# Altium footprint library PcbLib_FPGA_Controller.PcbLib: 20 footprints (part 1 of 2)
Each footprint in its own frame and in the unit in brackets; x right, y up, seen from the top. Pads: shape width x height; smd on the part's side, far side on the other; paste and mask are expansions set on the pad; w line width, h text height; cw(c..) or ccw(c..) is an arc to the next point about the centre after c.
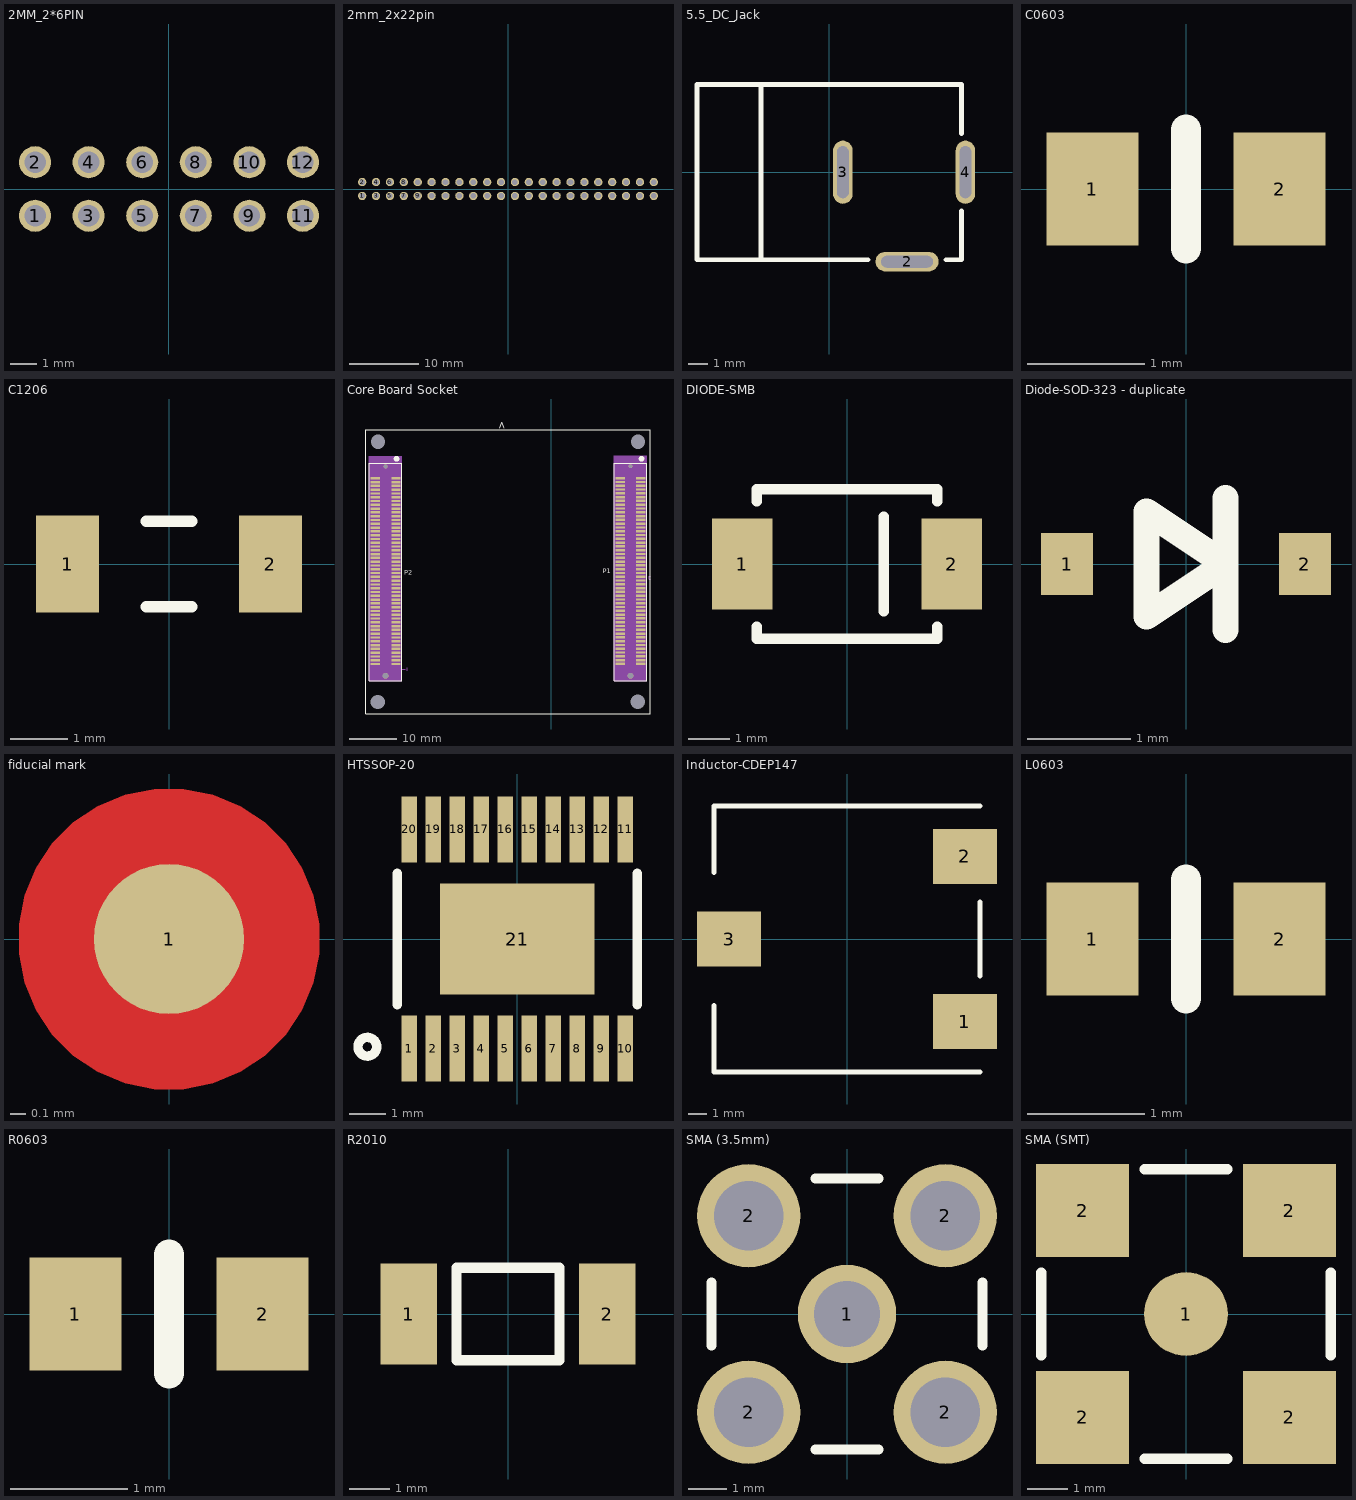
[diagram p0: the footprints below, top view; thin cyan lines are the x and y axes]

## 2MM_2*6PIN [mm]
pads (12):
  round 1.2 hole 0.8 mask+0.102: 1(-4.998,-1) 2(-4.998,1) 3(-2.998,-1) 4(-2.998,1) 5(-0.998,-1) 6(-0.998,1) 7(1.002,-1) 8(1.002,1) 9(3.002,-1) 10(3.002,1) 11(5.002,-1) 12(5.002,1)

## 2mm_2x22pin [mm]
pads (44):
  round 1.2 hole 0.8 mask+0.102: 1(-21,-1) 2(-21,1) 3(-19,-1) 4(-19,1) 5(-17,-1) 6(-17,1) 7(-15,-1) 8(-15,1) 9(-13,-1) 10(-13,1) 11(-11,-1) 12(-11,1) 13(-9,-1) 14(-9,1) 15(-7,-1) 16(-7,1) 17(-5,-1) 18(-5,1) 19(-3,-1) 20(-3,1) 21(-1,-1) 22(-1,1) 23(1,-1) 24(1,1) 25(3,-1) 26(3,1) 27(5,-1) 28(5,1) 29(7,-1) 30(7,1) 31(9,-1) 32(9,1) 33(11,-1) 34(11,1) 35(13,-1) 36(13,1) 37(15,-1) 38(15,1) 39(17,-1) 40(17,1) 41(19,-1) 42(19,1) 43(21,-1) 44(21,1)
3D body "2x22.step": height 5.51, standoff -2.59, extent -21.95,-2 21.95,2

## 5.5_DC_Jack [mm]
pads (3):
  oval 3.25x1 hole 0.6 slot 2.667 at 0 deg: 2(4,-4.6)
  oval 1x3.25 hole 0.6 slot 2.667 at 90 deg: 3(0.7,0) 4(7,0)
Top Overlay:
  lines w0.254: -3.5,-4.5 -3.5,4.5 ; 2,-4.5 -6.8,-4.5 -6.8,4.5 6.8,4.5 6.8,2 ; 6,-4.5 6.8,-4.5 6.8,-2
3D body "5.5_DC_Jack.step": height 11, standoff -3.5, extent -6.946,-4.746 7.454,4.754

## C0603 [mil]
pads (2):
  rect 31x38 smd: 1(-31.5,0) 2(31.5,0)
Top Overlay:
  lines w10: 0,-20 0,20
3D body "C0603.STEP": height 31.5, standoff 0, extent -31.49,-15.75 31.5,15.75

## C1206 [mm]
pads (2):
  rect 1.1x1.7 smd: 1(-1.778,0) 2(1.778,0)
Top Overlay:
  lines w0.2: -0.4,-0.75 0.4,-0.75 ; -0.4,0.75 0.4,0.75
3D body "C1206.step": height 1.86, standoff -0.09, extent -1.85,-0.9 1.85,0.9

## Core Board Socket [mm]
pads (208):
  rect 2x0.5 smd: 1(18.873,-53.802) 2(14.474,-53.802) 3(18.873,-54.602) 4(14.474,-54.602) 5(18.873,-55.402) 6(14.474,-55.402) 7(18.873,-56.202) 8(14.474,-56.202) 9(18.873,-57.002) 10(14.474,-57.002) 11(18.873,-57.802) 12(14.474,-57.802) 13(18.873,-58.602) 14(14.474,-58.602) 15(18.873,-59.402) 16(14.474,-59.402) 17(18.873,-60.202) 18(14.474,-60.202) 19(18.873,-61.002) 20(14.474,-61.002) 21(18.873,-61.802) 22(14.474,-61.802) 23(18.873,-62.602) 24(14.474,-62.602) 25(18.873,-63.402) 26(14.474,-63.402) 27(18.873,-64.202) 28(14.474,-64.202) 29(18.873,-65.002) 30(14.474,-65.002) 31(18.873,-65.802) 32(14.474,-65.802) 33(18.873,-66.602) 34(14.474,-66.602) 35(18.873,-67.402) 36(14.474,-67.402) 37(18.873,-68.202) 38(14.474,-68.202) 39(18.873,-69.002) 40(14.474,-69.002) 41(18.873,-69.802) 42(14.474,-69.802) 43(18.873,-70.602) 44(14.474,-70.602) 45(18.873,-71.402) 46(14.474,-71.402) 47(18.873,-72.202) 48(14.474,-72.202) 49(18.873,-73.002) 50(14.474,-73.002) 51(18.873,-73.802) 52(14.474,-73.802) 53(18.873,-74.602) 54(14.474,-74.602) 55(18.873,-75.402) 56(14.474,-75.402) 57(18.873,-76.202) 58(14.474,-76.202) 59(18.873,-77.002) 60(14.474,-77.002) 61(18.873,-77.802) 62(14.474,-77.802) 63(18.873,-78.602) 64(14.474,-78.602) 65(18.873,-79.402) 66(14.474,-79.402) 67(18.873,-80.202) 68(14.474,-80.202) 69(18.873,-81.002) 70(14.474,-81.002) 71(18.873,-81.802) 72(14.474,-81.802) 73(18.873,-82.602) 74(14.474,-82.602) 75(18.873,-83.402) 76(14.474,-83.402) 77(18.873,-84.202) 78(14.474,-84.202) 79(18.873,-85.002) 80(14.474,-85.002) 81(18.873,-85.802) 82(14.474,-85.802) 83(18.873,-86.602) 84(14.474,-86.602) 85(18.873,-87.402) 86(14.474,-87.402) 87(18.873,-88.202) 88(14.474,-88.202) 89(18.873,-89.002) 90(14.474,-89.002) 91(18.873,-89.802) 92(14.474,-89.802) 93(18.873,-90.602) 94(14.474,-90.602) 95(18.873,-91.402) 96(14.474,-91.402) 97(18.873,-92.202) 98(14.474,-92.202) 99(18.873,-93.002) 100(14.474,-93.002) 101(-32.816,-53.827) 102(-37.215,-53.827) 103(-32.816,-54.627) 104(-37.215,-54.627) 105(-32.816,-55.427) 106(-37.215,-55.427) 107(-32.816,-56.227) 108(-37.215,-56.227) 109(-32.816,-57.027) 110(-37.215,-57.027) 111(-32.816,-57.827) 112(-37.215,-57.827) 113(-32.816,-58.627) 114(-37.215,-58.627) 115(-32.816,-59.427) 116(-37.215,-59.427) 117(-32.816,-60.227) 118(-37.215,-60.227) 119(-32.816,-61.027) 120(-37.215,-61.027) 121(-32.816,-61.827) 122(-37.215,-61.827) 123(-32.816,-62.627) 124(-37.215,-62.627) 125(-32.816,-63.427) 126(-37.215,-63.427) 127(-32.816,-64.227) 128(-37.215,-64.227) 129(-32.816,-65.027) 130(-37.215,-65.027) 131(-32.816,-65.827) 132(-37.215,-65.827) 133(-32.816,-66.627) 134(-37.215,-66.627) 135(-32.816,-67.427) 136(-37.215,-67.427) 137(-32.816,-68.227) 138(-37.215,-68.227) 139(-32.816,-69.027) 140(-37.215,-69.027) 141(-32.816,-69.827) 142(-37.215,-69.827) 143(-32.816,-70.627) 144(-37.215,-70.627) 145(-32.816,-71.427) 146(-37.215,-71.427) 147(-32.816,-72.227) 148(-37.215,-72.227) 149(-32.816,-73.027) 150(-37.215,-73.027) 151(-32.816,-73.827) 152(-37.215,-73.827) 153(-32.816,-74.627) 154(-37.215,-74.627) 155(-32.816,-75.427) 156(-37.215,-75.427) 157(-32.816,-76.227) 158(-37.215,-76.227) 159(-32.816,-77.027) 160(-37.215,-77.027) 161(-32.816,-77.827) 162(-37.215,-77.827) 163(-32.816,-78.627) 164(-37.215,-78.627) 165(-32.816,-79.427) 166(-37.215,-79.427) 167(-32.816,-80.227) 168(-37.215,-80.227) 169(-32.816,-81.027) 170(-37.215,-81.027) 171(-32.816,-81.827) 172(-37.215,-81.827) 173(-32.816,-82.627) 174(-37.215,-82.627) 175(-32.816,-83.427) 176(-37.215,-83.427) 177(-32.816,-84.227) 178(-37.215,-84.227) 179(-32.816,-85.027) 180(-37.215,-85.027) 181(-32.816,-85.827) 182(-37.215,-85.827) 183(-32.816,-86.627) 184(-37.215,-86.627) 185(-32.816,-87.427) 186(-37.215,-87.427) 187(-32.816,-88.227) 188(-37.215,-88.227) 189(-32.816,-89.027) 190(-37.215,-89.027) 191(-32.816,-89.827) 192(-37.215,-89.827) 193(-32.816,-90.627) 194(-37.215,-90.627) 195(-32.816,-91.427) 196(-37.215,-91.427) 197(-32.816,-92.227) 198(-37.215,-92.227) 199(-32.816,-93.027) 200(-37.215,-93.027)
  round 1.2 hole 1.2: 201(-35.015,-95.527) 201(16.674,-95.502)
  round 0.8 hole 0.8: 202(-35.015,-51.327) 202(16.674,-51.302)
  rect 0x0 hole 3: 203(-36.651,-101.011) 203(-36.644,-46.127) 203(18.209,-100.994) 203(18.229,-46.127)
Top Overlay:
  circle w0.6: c18.995,-49.691 r0.3
  circle w0.6: c-32.694,-49.716 r0.3
  lines w0.025: -39.209,-103.57 20.791,-103.57 20.791,-43.57 -39.209,-43.57 -39.209,-103.57
  lines w0.2: -38.415,-96.527 -31.615,-96.527 -31.615,-88.527 -31.615,-50.627 -38.415,-50.627 -38.415,-88.527 -38.415,-96.527 ; 13.274,-96.502 20.074,-96.502 20.074,-88.502 20.074,-50.602 13.274,-50.602 13.274,-88.502 13.274,-96.502
  text "<" at -11.176,-41.783 h1.52
  text "P1" at 10.795,-73.914 h1.02
  text "P2" at -31.115,-74.168 h1.02
Mechanical 7:
  text "1" at 18.617,-53.802 h0.64
  text "9" at 18.617,-57.002 h0.64
  text "3" at 18.617,-54.602 h0.64
  text "5" at 18.617,-55.402 h0.64
  text "7" at 18.617,-56.202 h0.64
  text "11" at 18.361,-57.802 h0.64
  text "21" at 18.361,-61.802 h0.64
  text "31" at 18.361,-65.802 h0.64
  text "19" at 18.361,-61.002 h0.64
  text "13" at 18.361,-58.602 h0.64
  text "15" at 18.361,-59.402 h0.64
  text "17" at 18.361,-60.202 h0.64
  text "29" at 18.361,-65.002 h0.64
  text "23" at 18.361,-62.602 h0.64
  text "25" at 18.361,-63.402 h0.64
  text "27" at 18.361,-64.202 h0.64
  text "33" at 18.361,-66.602 h0.64
  text "35" at 18.361,-67.402 h0.64
  text "37" at 18.361,-68.202 h0.64
  text "102" at 15.912,-51.302 h0.64
  text "6" at 14.218,-55.402 h0.64
  text "2" at 14.218,-53.802 h0.64
  text "8" at 14.218,-56.202 h0.64
  text "4" at 14.218,-54.602 h0.64
  text "16" at 13.962,-59.402 h0.64
  text "12" at 13.962,-57.802 h0.64
  text "61" at 18.361,-77.802 h0.64
  text "41" at 18.361,-69.802 h0.64
  text "51" at 18.361,-73.802 h0.64
  text "91" at 18.361,-89.802 h0.64
  text "71" at 18.361,-81.802 h0.64
  text "81" at 18.361,-85.802 h0.64
  text "69" at 18.361,-81.002 h0.64
  text "65" at 18.361,-79.402 h0.64
  text "63" at 18.361,-78.602 h0.64
  text "67" at 18.361,-80.202 h0.64
  text "39" at 18.361,-69.002 h0.64
  text "99" at 18.361,-93.002 h0.64
  text "89" at 18.361,-89.002 h0.64
  text "49" at 18.361,-73.002 h0.64
  text "59" at 18.361,-77.002 h0.64
  text "79" at 18.361,-85.002 h0.64
  text "43" at 18.361,-70.602 h0.64
  text "45" at 18.361,-71.402 h0.64
  text "47" at 18.361,-72.202 h0.64
  text "83" at 18.361,-86.602 h0.64
  text "73" at 18.361,-82.602 h0.64
  text "75" at 18.361,-83.402 h0.64
  text "93" at 18.361,-90.602 h0.64
  text "57" at 18.361,-76.202 h0.64
  text "55" at 18.361,-75.402 h0.64
  text "85" at 18.361,-87.402 h0.64
  text "53" at 18.361,-74.602 h0.64
  text "87" at 18.361,-88.202 h0.64
  text "95" at 18.361,-91.402 h0.64
  text "97" at 18.361,-92.202 h0.64
  text "77" at 18.361,-84.202 h0.64
  text "101" at 15.912,-95.502 h0.64
  text "10" at 13.962,-57.002 h0.64
  text "18" at 13.962,-60.202 h0.64
  text "14" at 13.962,-58.602 h0.64
  text "26" at 13.962,-63.402 h0.64
  text "22" at 13.962,-61.802 h0.64
  text "20" at 13.962,-61.002 h0.64
  text "28" at 13.962,-64.202 h0.64
  text "24" at 13.962,-62.602 h0.64
  text "1" at -33.072,-53.827 h0.64
  text "9" at -33.072,-57.027 h0.64
  text "5" at -33.072,-55.427 h0.64
  text "7" at -33.072,-56.227 h0.64
  text "3" at -33.072,-54.627 h0.64
  text "11" at -33.328,-57.827 h0.64
  text "21" at -33.328,-61.827 h0.64
  text "31" at -33.328,-65.827 h0.64
  text "19" at -33.328,-61.027 h0.64
  text "17" at -33.328,-60.227 h0.64
  text "13" at -33.328,-58.627 h0.64
  text "15" at -33.328,-59.427 h0.64
  text "29" at -33.328,-65.027 h0.64
  text "23" at -33.328,-62.627 h0.64
  text "25" at -33.328,-63.427 h0.64
  text "27" at -33.328,-64.227 h0.64
  text "33" at -33.328,-66.627 h0.64
  text "35" at -33.328,-67.427 h0.64
  text "37" at -33.328,-68.227 h0.64
  text "102" at -35.777,-51.327 h0.64
  text "6" at -37.471,-55.427 h0.64
  text "2" at -37.471,-53.827 h0.64
  text "8" at -37.471,-56.227 h0.64
  text "4" at -37.471,-54.627 h0.64
  text "61" at -33.328,-77.827 h0.64
  text "41" at -33.328,-69.827 h0.64
  text "51" at -33.328,-73.827 h0.64
  text "71" at -33.328,-81.827 h0.64
  text "81" at -33.328,-85.827 h0.64
  text "91" at -33.328,-89.827 h0.64
  text "69" at -33.328,-81.027 h0.64
  text "63" at -33.328,-78.627 h0.64
  text "65" at -33.328,-79.427 h0.64
  text "67" at -33.328,-80.227 h0.64
  text "39" at -33.328,-69.027 h0.64
  text "49" at -33.328,-73.027 h0.64
  text "59" at -33.328,-77.027 h0.64
  text "79" at -33.328,-85.027 h0.64
  text "89" at -33.328,-89.027 h0.64
  text "99" at -33.328,-93.027 h0.64
  text "43" at -33.328,-70.627 h0.64
  text "45" at -33.328,-71.427 h0.64
  text "47" at -33.328,-72.227 h0.64
  text "53" at -33.328,-74.627 h0.64
  text "55" at -33.328,-75.427 h0.64
  text "57" at -33.328,-76.227 h0.64
  text "73" at -33.328,-82.627 h0.64
  text "75" at -33.328,-83.427 h0.64
  text "77" at -33.328,-84.227 h0.64
  text "83" at -33.328,-86.627 h0.64
  text "85" at -33.328,-87.427 h0.64
  text "87" at -33.328,-88.227 h0.64
  text "97" at -33.328,-92.227 h0.64
  text "93" at -33.328,-90.627 h0.64
  text "95" at -33.328,-91.427 h0.64
  text "101" at -35.777,-95.527 h0.64
Mechanical 8:
  lines w0.025: -37.215,-95.347 -37.215,-94.297 ; -32.816,-95.347 -32.816,-94.297 ; -30.913,-94.077 -32.816,-94.077 ; -30.433,-94.397 -30.433,-93.757 ; 14.474,-95.322 14.474,-94.272 ; 18.873,-95.322 18.873,-94.272 ; 20.85,-75.093 20.645,-75.093 20.645,-74.453 20.85,-74.453 ; -37.215,-94.077 -35.945,-93.442 -35.945,-94.712 -37.215,-94.077 ; -37.215,-94.077 -32.816,-94.077 ; -32.816,-94.077 -34.086,-93.442 -34.086,-94.712 -32.816,-94.077 ; 14.474,-94.052 18.873,-94.052 ; 14.474,-94.052 15.744,-93.417 15.744,-94.687 14.474,-94.052 ; 18.873,-94.052 17.603,-93.417 17.603,-94.687 18.873,-94.052
Mechanical 9:
  lines w0.025: -38.415,-96.527 -38.415,-49.137 -31.615,-49.137 -31.615,-96.527 -38.415,-96.527 ; 13.274,-96.502 13.274,-49.112 20.074,-49.112 20.074,-96.502 13.274,-96.502
Mechanical 10:
  region: 20.074,-49.112 13.274,-49.112 13.274,-96.502 20.074,-96.502
  region: -31.615,-49.137 -38.415,-49.137 -38.415,-96.527 -31.615,-96.527

## DIODE-SMB [mm]
pads (2):
  rect 1.47x2.2 smd: 1(-2.54,0) 2(2.54,0)
Top Overlay:
  lines w0.254: -2.191,-1.524 -2.191,-1.81 2.191,-1.81 2.191,-1.524 ; -2.191,1.524 -2.191,1.81 2.191,1.81 2.191,1.524 ; 0.889,-1.143 0.889,1.143
3D body "Diode-SMB.step": height 2.27, standoff -0.03, extent -2.7,-1.8 2.7,1.8

## Diode-SOD-323 - duplicate [mm]
pads (2):
  rect 0.5x0.6 smd: 1(-1.15,0) 2(1.15,0)
Top Overlay:
  lines w0.254: 0.381,0.635 0.381,-0.635 0.381,0 ; 0.381,0 -0.381,0.508 -0.381,-0.508 0.381,0
3D body "Diode-SOD-323.step": height 1, standoff 0, extent -1.25,-0.675 1.25,0.675

## fiducial mark [mm]
pads (1):
  round 1 smd mask+0.5: 1(0,0)
Top Layer:
  pour cut-out: 0,-1 -0.098,-1 -0.292,-0.962 -0.474,-0.886 -0.637,-0.777 -0.777,-0.637 -0.886,-0.474 -0.962,-0.292 -1,-0.098 -1,0 -1,0.098 -0.962,0.292 -0.886,0.474 -0.777,0.637 -0.637,0.777 -0.474,0.886 -0.292,0.962 -0.098,1 0,1 0.098,1 0.292,0.962 0.474,0.886 0.637,0.777 0.777,0.637 0.886,0.474 0.962,0.292 1,0.098 1,0 1,-0.098 0.962,-0.292 0.886,-0.474 0.777,-0.637 0.637,-0.777 0.474,-0.886 0.292,-0.962 0.098,-1

## HTSSOP-20 [mm]
pads (21):
  rect 0.42x1.78 smd: 1(-2.925,-2.97) 2(-2.275,-2.97) 3(-1.625,-2.97) 4(-0.975,-2.97) 5(-0.325,-2.97) 6(0.325,-2.97) 7(0.975,-2.97) 8(1.625,-2.97) 9(2.275,-2.97) 10(2.925,-2.97) 11(2.925,2.97) 12(2.275,2.97) 13(1.625,2.97) 14(0.975,2.97) 15(0.325,2.97) 16(-0.325,2.97) 17(-0.975,2.97) 18(-1.625,2.97) 19(-2.275,2.97) 20(-2.925,2.97)
  rect 4.2x3 smd: 21(0,0)
Top Overlay:
  circle w0.254: c-4.064,-2.921 r0.254
  lines w0.254: -3.25,-1.778 -3.25,1.778 ; 3.25,-1.778 3.25,1.778
3D body "HTSSOP-20.step": height 0.95, standoff -0.06, extent -3.25,-3.207 3.25,3.207

## Inductor-CDEP147 [mm]
pads (3):
  rect 3.5x3 smd: 1(6.425,-4.5) 2(6.425,4.5) 3(-6.425,0)
Top Overlay:
  lines w0.254: -7.25,-3.625 -7.25,-7.25 7.25,-7.25 ; -7.25,3.625 -7.25,7.25 7.25,7.25 ; 7.25,-2.032 7.25,2.032
3D body "Inductor-CDEP147.step": height 8, standoff 0, extent -7.25,-7.25 7.25,7.25

## L0603 [mil]
pads (2):
  rect 31x38 smd: 1(-31.5,0) 2(31.5,0)
Top Overlay:
  lines w10: 0,-20 0,20
3D body "R0603.STEP": height 17.72, standoff 0, extent -31.49,-15.75 31.5,15.75

## R0603 [mil]
pads (2):
  rect 31x38 smd: 1(-31.5,0) 2(31.5,0)
Top Overlay:
  lines w10: 0,-20 0,20
3D body "R0603.STEP": height 17.72, standoff 0, extent -31.49,-15.75 31.5,15.75

## R2010 [mm]
pads (2):
  rect 1.4x2.5 smd: 1(-2.45,0) 2(2.45,0)
Top Overlay:
  lines w0.254: -1.27,-1.143 -1.27,1.143 1.27,1.143 1.27,-1.143 -1.27,-1.143
3D body "R2010.step": height 0.47, standoff 0, extent -2.5,-1.251 2.5,1.251

## SMA (3.5mm) [mil]
pads (5):
  round 100 hole 66.93 mask+4: 1(0,0)
  round 105 hole 70.87: 2(-100,-100) 2(-100,100) 2(100,-100) 2(100,100)
Top Overlay:
  lines w10: -137.8,-32.2 -137.8,32.2 ; -32.2,-137.8 32.2,-137.8 ; -32.2,137.79 32.2,137.79 ; 137.79,-32.2 137.79,32.2
3D body "SMA.STEP": height 400, standoff -131.5, extent -125.97,-125.97 125.99,125.99

## SMA (SMT) [mil]
pads (5):
  round 81 smd mask+25: 1(0,0)
  rect 90x90 smd: 2(-100,-100) 2(-100,100) 2(100,-100) 2(100,100)
Top Overlay:
  lines w10: -140,-40 -140,40 ; -40,-140 40,-140 ; -40,140 40,140 ; 140,-40 140,40
3D body "SMA-SMT.STEP": height 380, standoff 5, extent -125,-125 125,125